# EAGLE library part MICRO-SD-ALIEXP (library PonLib)
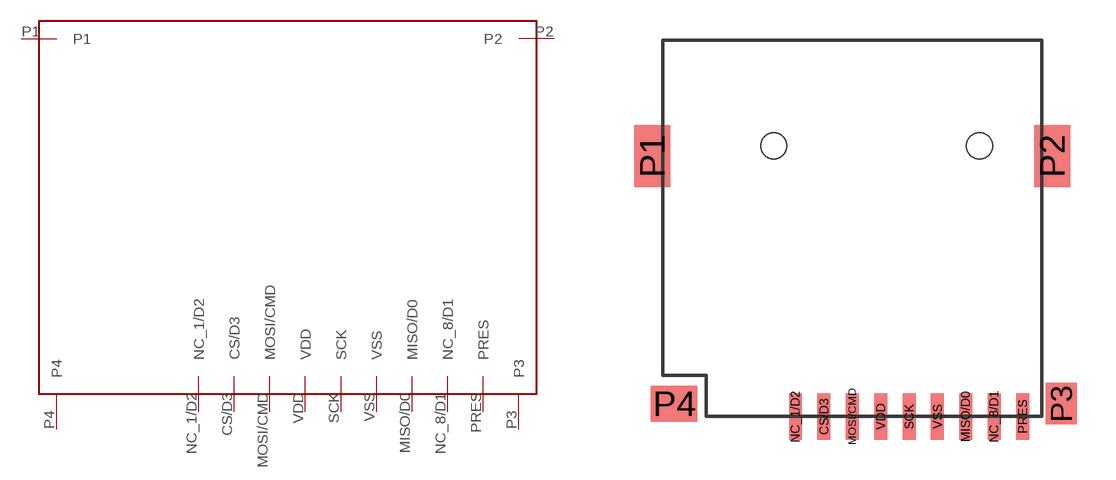
[diagram p29: symbol with the pads of MICRO-SD-ALIEXP; footprint MICRO-SD-ALIEXP]

Designator prefix -

## MICRO-SD-ALIEXP  [MICRO-SD-ALIEXP]
CS/D3  CS/D3
MISO/D0  MISO/D0
MOSI/CMD  MOSI/CMD
NC_1/D2  NC_1/D2
NC_8/D1  NC_8/D1
P1  P1
P2  P2
P3  P3
P4  P4
PRES  PRES
SCK  SCK
VDD  VDD
VSS  VSS

## Footprint MICRO-SD-ALIEXP (pad centres in mm)
smd 0.5 x 1.8: CS/D3 -4.8,-0.6; MISO/D0 0.7,-0.6; MOSI/CMD -3.7,-0.6; NC_1/D2 -5.9,-0.6; NC_8/D1 1.8,-0.6; PRES 2.9,-0.6; SCK -1.5,-0.6; VDD -2.6,-0.6; VSS -0.4,-0.6
smd 1.4 x 2.4: P1 -11.45,9.5; P2 4.05,9.5
smd 1.2 x 1.6: P3 4.4,-0.1
smd 1.8 x 1.4: P4 -10.6,-0.1
hole 1 at -6.75,9.9
hole 1 at 1.23,9.9